# Altium schematic symbol library 744051.SchLib: 3 symbols
Pins are listed as number, name and electrical type; pins without a type are passive.

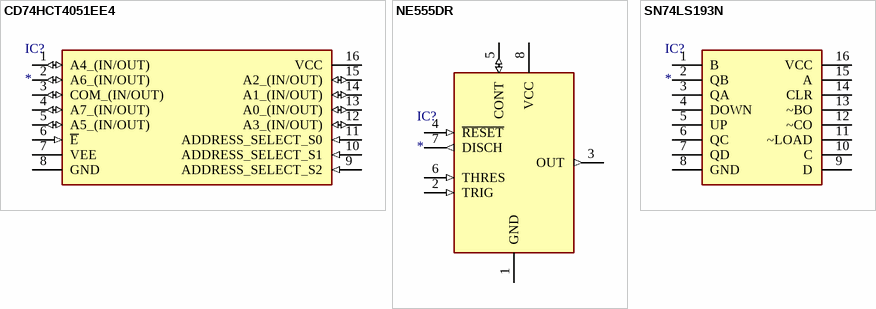
[diagram p0: symbols CD74HCT4051EE4 to SN74LS193N]

## CD74HCT4051EE4
designator IC?
Integrated Circuit; Manufacturer_Name: Texas Instruments; Manufacturer_Part_Number: CD74HCT4051EE4; Description: 8 Channel DIP Multiplexer; Datasheet Link: http://www.alldatasheet.com/datasheet-pdf/pdf/227332/TI/CD74HCT4051EE4.html; Height: 5.08mm; Mouser Part Number: 595-CD74HCT4051EE4; Mouser Price/Stock: https://www.mouser.com/Search/Refine.aspx?Keyword=595-CD74HCT4051EE4
footprint DIP794W53P254L1930H508Q16N
pins: 1 A4_(IN/OUT) (io), 2 A6_(IN/OUT) (io), 3 COM_(IN/OUT) (io), 4 A7_(IN/OUT) (io), 5 A5_(IN/OUT) (io), 6 ~{E} (in), 7 VEE (power), 8 GND (power), 9 ADDRESS_SELECT_S2 (in), 10 ADDRESS_SELECT_S1 (in), 11 ADDRESS_SELECT_S0 (in), 12 A3_(IN/OUT) (io), 13 A0_(IN/OUT) (io), 14 A1_(IN/OUT) (io), 15 A2_(IN/OUT) (io), 16 VCC (power)

## NE555DR
designator IC?
Integrated Circuit; Manufacturer_Name: Texas Instruments; Manufacturer_Part_Number: NE555DR; Datasheet Link: http://www.ti.com/lit/ds/symlink/ne555.pdf; Height: 1.75mm; Mouser Part Number: 595-NE555DR; Mouser Price/Stock: https://www.mouser.com/Search/Refine.aspx?Keyword=595-NE555DR; RS Part Number: 1218414; RS Price/Stock: http://uk.rs-online.com/web/p/products/1218414
footprint SOIC127P600X175-8N
pins: 1 GND (power), 2 TRIG (in), 3 OUT (out), 4 ~{RESET} (in), 5 CONT (io), 6 THRES (in), 7 DISCH (out), 8 VCC (power)

## SN74LS193N
designator IC?
Integrated Circuit; Manufacturer_Name: Texas Instruments; Manufacturer_Part_Number: SN74LS193N; Datasheet Link: http://www.ti.com/lit/gpn/sn74ls193; Mouser Part Number: 595-SN74LS193N; Mouser Price/Stock: https://www.mouser.com/Search/Refine.aspx?Keyword=595-SN74LS193N; RS Part Number: 3123235; RS Price/Stock: http://uk.rs-online.com/web/p/products/3123235
footprint DIP254P762X508-16
pins: 1 B, 2 QB, 3 QA, 4 DOWN, 5 UP, 6 QC, 7 QD, 8 GND, 9 D, 10 C, 11 ~LOAD, 12 ~CO, 13 ~BO, 14 CLR, 15 A, 16 VCC